# EAGLE library part MAX7456 (library Maxim)
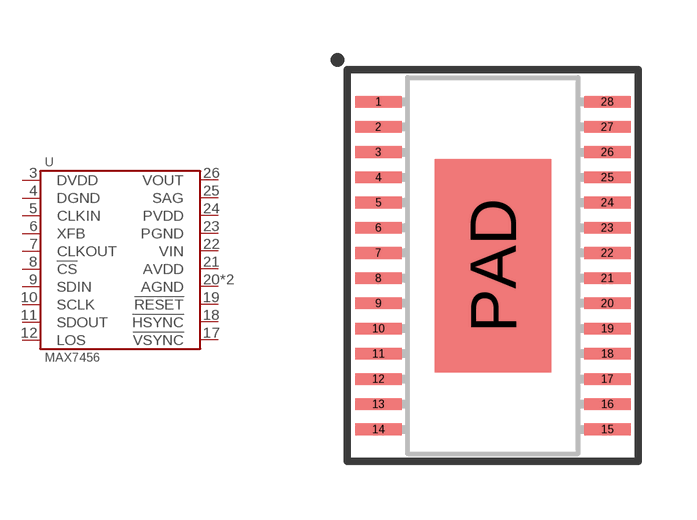
[diagram p8: symbol with the pads of TSSOP-EP-28; footprint TSSOP-EP-28]

Designator prefix U

## MAX7456EUI+  [TSSOP-EP-28]
3  DVDD
4  DGND
5  CLKIN
6  XFB
7  CLKOUT
8  !CS
9  SDIN
10  SCLK
11  SDOUT
12  LOS
17  !VSYNC
18  !HSYNC
19  !RESET
20  AGND
21  AVDD
22  VIN
23  PGND
24  PVDD
25  SAG
26  VOUT
PAD  AGND

## Footprint TSSOP-EP-28 (pad centres in mm)
smd 1.2 x 0.3: 1 -2.95,4.225; 2 -2.95,3.575; 3 -2.95,2.925; 4 -2.95,2.275; 5 -2.95,1.625; 6 -2.95,0.975; 7 -2.95,0.325; 8 -2.95,-0.325; 9 -2.95,-0.975; 10 -2.95,-1.625; 11 -2.95,-2.275; 12 -2.95,-2.925; 13 -2.95,-3.575; 14 -2.95,-4.225; 15 2.95,-4.225; 16 2.95,-3.575; 17 2.95,-2.925; 18 2.95,-2.275; 19 2.95,-1.625; 20 2.95,-0.975; 21 2.95,-0.325; 22 2.95,0.325; 23 2.95,0.975; 24 2.95,1.625; 25 2.95,2.275; 26 2.95,2.925; 27 2.95,3.575; 28 2.95,4.225
smd 3 x 5.5: PAD 0,0